# EAGLE library part 50246-012 (library con-aces-50246-series)
ACES CONNECTORS 50246 SERIES ACES Connecors 50246 <https://www.acesconn.com/tw/series/50246-xxxxx-xxx/1292>
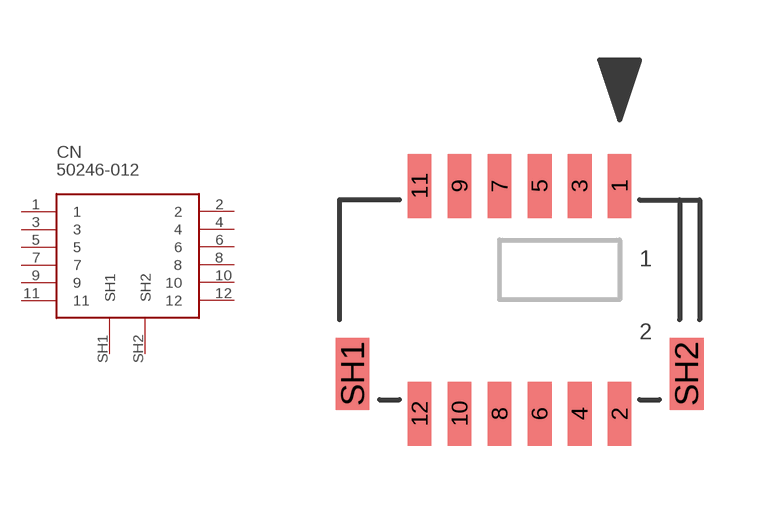
[diagram p2: symbol with the pads of 50246-012; footprint 50246-012]

Designator prefix CN

## 50246-012  [50246-012]
1  1
2  2
3  3
4  4
5  5
6  6
7  7
8  8
9  9
10  10
11  11
12  12
SH1  SH1
SH2  SH2

## Footprint 50246-012 (pad centres in mm)
smd 0.6 x 1.6: 1 2.5,2.85; 2 2.5,-2.85; 3 1.5,2.85; 4 1.5,-2.85; 5 0.5,2.85; 6 0.5,-2.85; 7 -0.5,2.85; 8 -0.5,-2.85; 9 -1.5,2.85; 10 -1.5,-2.85; 11 -2.5,2.85; 12 -2.5,-2.85
smd 0.85 x 1.8: SH1 -4.175,-1.85; SH2 4.175,-1.85